# EAGLE library part RELAY_CARGAS (library Conector Lancha)
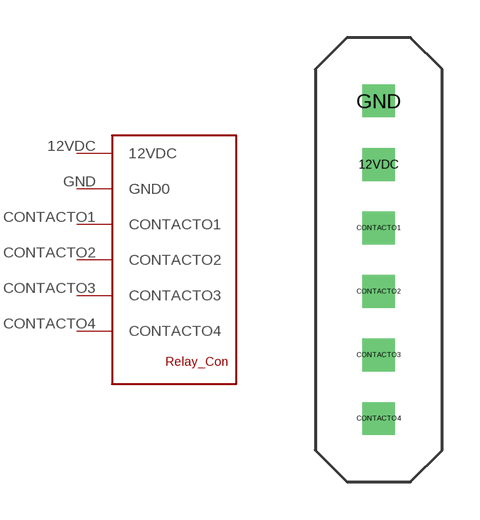
[diagram p2: symbol with the pads of RELAY_CARGAS; footprint RELAY_CARGAS]

Designator prefix -

## RELAY_CARGAS  [RELAY_CARGAS]
12VDC  12VDC
CONTACTO1  CONTACTO1
CONTACTO2  CONTACTO2
CONTACTO3  CONTACTO3
CONTACTO4  CONTACTO4
GND  GND0

## Footprint RELAY_CARGAS (pad centres in mm)
drill 0.8 square: 12VDC -10.16,5.08; CONTACTO1 -10.16,2.54; CONTACTO2 -10.16,0; CONTACTO3 -10.16,-2.54; CONTACTO4 -10.16,-5.08; GND -10.16,7.62